# Altium schematic symbol library TarabusLib_KAP.SchLib: 304 symbols (part 4 of 4)
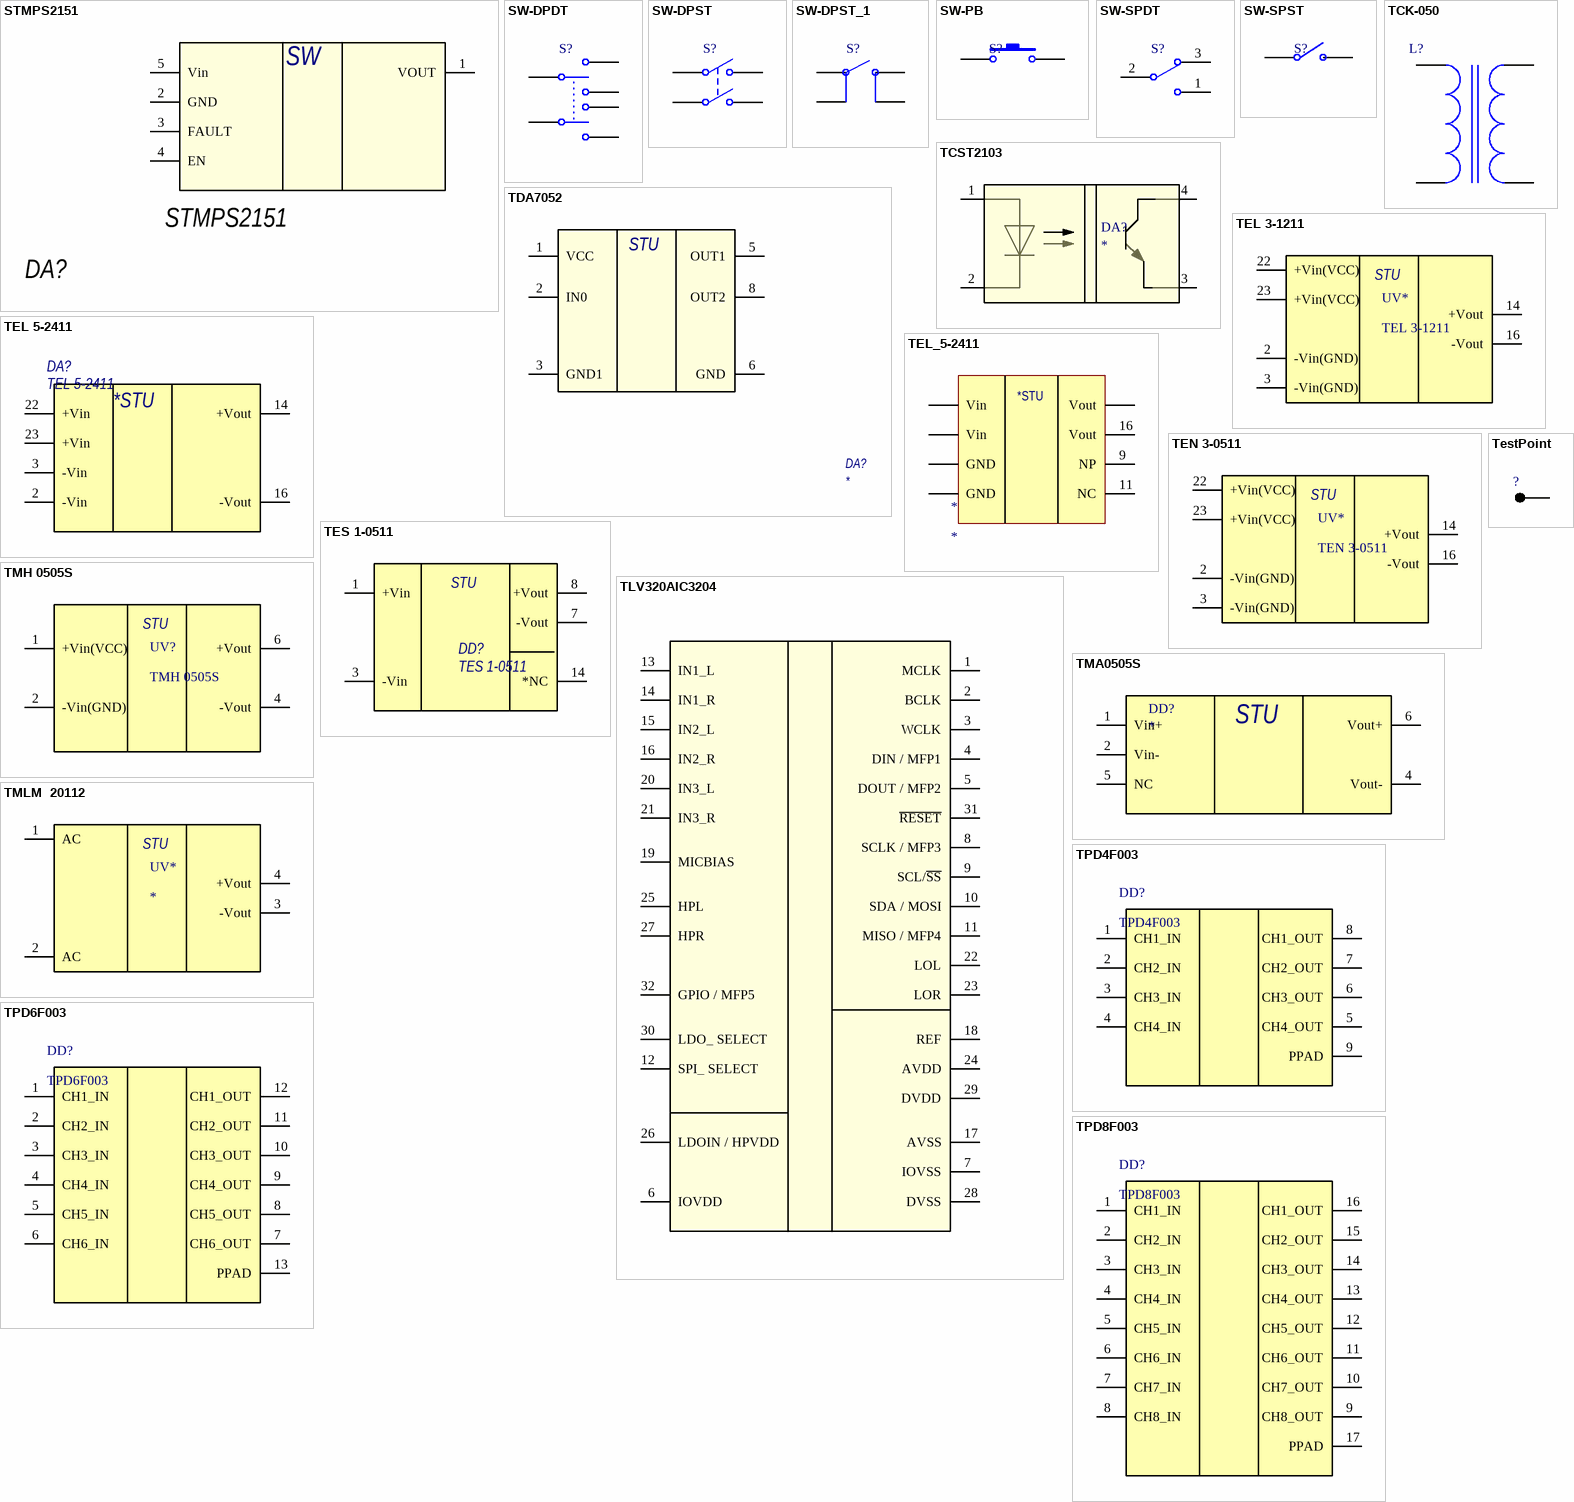
[diagram p42: symbols STMPS2151 to TPD8F003]

## SW-DPDT
designator S?
Double-Pole, Double-Throw Switch; Published: 24-Mar-1999; LatestRevisionDate: 17-Jul-2002; LatestRevisionNote: Re-released for DXP Platform.; PackageReference: DPDT-6; Publisher: Altium Limited; PackageDescription: Switch; 6 Leads
footprint DPDT-6 (Switch; 6 Leads)
pins: 1, 2, 3, 4, 5, 6

## SW-DPST
designator S?
Double-Pole, Single-Throw Switch; Published: 24-Mar-1999; LatestRevisionDate: 17-Jul-2002; LatestRevisionNote: Re-released for DXP Platform.; PackageReference: DPST-4; Publisher: Altium Limited; PackageDescription: Switch; 4 Leads
footprint DPST-4 (Switch; 4 Leads)
pins: 1, 2, 3, 4

## SW-DPST_1
designator S?
Double-Pole, Single-Throw Switch; Published: 24-Mar-1999; LatestRevisionDate: 17-Jul-2002; LatestRevisionNote: Re-released for DXP Platform.; PackageReference: DPST-4; Publisher: Altium Limited; PackageDescription: Switch; 4 Leads
footprint DPST-4 (Switch; 4 Leads)
footprint Tact_Switch_TH
pins: 1, 2, 3, 4

## SW-PB
designator S?
Switch; Published: 24-Mar-1999; LatestRevisionDate: 17-Jul-2002; LatestRevisionNote: Re-released for DXP Platform.; PackageReference: SPST-2; Publisher: Altium Limited; PackageDescription: Switch; 2 Leads
footprint SPST-2 (Switch; 2 Leads)
pins: 1, 2

## SW-SPDT
designator S?
SPDT Subminiature Toggle Switch, Right Angle Mounting, Vertical Actuation; Published: 24-Mar-1999; LatestRevisionDate: 17-Dec-2003; LatestRevisionNote: Schematic revised, PCB Footprint replaced.; DatasheetVersion: 05-Dec-2000; PackageReference: TL36WW15050; Publisher: Altium Limited; PackageDescription: Switch; 4 Leads; ComponentLink1Description: Manufacturer Link; ComponentLink1URL: http://www.apem.com
footprint TL36WW15050 (Switch; 4 Leads)
pins: 1, 2, 3

## SW-SPST
designator S?
Single-Pole, Single-Throw Switch; Published: 24-Mar-1999; LatestRevisionDate: 17-Jul-2002; LatestRevisionNote: Re-released for DXP Platform.; PackageReference: SPST-2; Publisher: Altium Limited; PackageDescription: Switch; 2 Leads
footprint SPST-2 (Switch; 2 Leads)
pins: 1, 2

## TCK-050
designator L?  (value not drawn)
Индуктивность; Name: *
footprint TCK-050
pins: 1, 2, 3, 4

## TCST2103
designator DA?
footprint TCST2103
pins: 1, 2, 3, 4

## TDA7052
designator DA?
footprint SO8_H
pins: 1 VCC, 2 IN0, 3 GND1, 4 NC hidden, 5 OUT1, 6 GND, 7 NC hidden, 8 OUT2
text: STU

## TEL 3-1211
designator UV*
DC/DC конвертор
pins: 2 -Vin(GND), 3 -Vin(GND), 14 +Vout, 16 -Vout, 22 +Vin(VCC), 23 +Vin(VCC)
text: STU

## TEL 5-2411
designator DA?
DC/DC конвертор
footprint TEL 5 (Traco Power DC/DC converter)
pins: 2 -Vin, 3 -Vin, 14 +Vout, 16 -Vout, 22 +Vin, 23 +Vin
text: *STU

## TEL_5-2411
designator *
DC/DC конвертор
pins: 2 GND, 3 GND, 9 NP, 11 NC, 14 Vout, 16 Vout, 22 Vin, 23 Vin
text: *STU

## TEN 3-0511
designator UV*
DC/DC конвертор
pins: 2 -Vin(GND), 3 -Vin(GND), 14 +Vout, 16 -Vout, 22 +Vin(VCC), 23 +Vin(VCC)
text: STU

## TES 1-0511
designator DD?
DC/DC конвертор
footprint TES 1 (Посадка для DC/DC TES 1)
pins: 1 +Vin, 3 -Vin, 7 -Vout, 8 +Vout, 14 *NC
text: STU

## TestPoint
designator ?
Test point
footprint PLS2-1
pins: 1

## TLV320AIC3204
designator DD?
Ultra Low Power Stereo Audio Codec; PortComponent: True; Published: 22-Jan-2007; Publisher: Altium Limited; HelpURL: https://wiki.altium.com/display/ADOH/NanoBoard+3000+-+Audio+CODEC
footprint VQFN32
pins: 1 MCLK (power) "Ground (0V)", 2 BCLK (power) "USB power connection", 3 WCLK (power) "Power supply (+3.3V DC) for de-coupling purposes", 4 DIN / MFP1 (power) "Antenna connection 1", 5 DOUT / MFP2 (power) "Antenna connection 1", 6 IOVDD (power) "Reset for microcontroller, active low", 7 IOVSS (power) "Ground (0V)", 8 SCLK / MFP3 (power) "Ground (0V)", 9 SCL/~{SS} (power) "Power supply (+3.3V DC) for de-coupling purposes", 10 SDA / MOSI (power) "Ground (0V)", 11 MISO / MFP4 (power) "USB data +", 12 SPI_ SELECT (power) "USB data -", 13 IN1_L (power) "Power supply (+3.3V DC) for de-coupling purposes", 14 IN1_R (power) "Power supply (+3.3V DC) for de-coupling purposes", 15 IN2_L (power) "Power supply (+3.3V DC) for de-coupling purposes", 16 IN2_R (power) "Reference current", 17 AVSS (power) "Positive Digital Supply output for de-coupling purposes", 18 REF (power) "Reserved for programming the flash", 19 MICBIAS (power) "Antenna connection 2", 20 IN3_L (power) "Power supply (+3.3V DC) for de-coupling purposes", 21 IN3_R (power) "Ground (0V)", 22 LOL (power) "Power Supply (+1.8V) to Power Amplifier", 23 LOR (power) "General purpose data Port 0, bit 0", 24 AVDD (power) "General purpose data Port 0, bit 1", 25 HPL (power) "General purpose data Port 0, bit 2", 26 LDOIN / HPVDD (power) "General purpose data Port 0, bit 3", 27 HPR (power) "General purpose data Port 0, bit 4", 28 DVSS (power) "General purpose data Port 0, bit 5", 29 DVDD (power) "Positive Digital Supply output for de-coupling purposes", 30 LDO_ SELECT (power) "GND", 31 ~{RESET} (power) "GND", 32 GPIO / MFP5 (power) "GND"

## TMA0505S
designator DD?
DC/DC преобразователь
footprint TMH 0505
pins: 1 Vin+, 2 Vin-, 4 Vout-, 5 NC, 6 Vout+
text: STU

## TMH 0505S
designator UV?
DC/DC конвертор
pins: 1 +Vin(VCC), 2 -Vin(GND), 4 -Vout, 6 +Vout
text: STU

## TMLM  20112
designator UV*
TMLM 20112
pins: 1 AC, 2 AC, 3 -Vout, 4 +Vout
text: STU

## TPD4F003
designator DD?
EMI Filter with Integrated ESD Protection, 4 Channels, -40 to +85 degC, 8-pin WSON (DQD), Green (RoHS & no Sb/Br); Manufacturer: Texas Instruments; PartNumber: TPD4F003DQDR; Breakdown Voltage(Min)(V): 6; Ctotal(Typ)(pF): 17; IEC 61000-4-2 Air-Gap(Typ)(+/- kV): 20; IEC 61000-4-2 Contact(Typ)(+/- kV): 12; SubFamily: EMI Solution; DatasheetVersion: SLLS907D; PackageVersion: revC, Dec-2011; PackageReference: DQD8-1200X400TP; PackageDescription: 8-Pin Plastic Small Outline No-Lead, 1.35 x 1.7 x 0.8 mm Body, 0.4 mm Pitch, Exposed Pad; Supplier 1: Digi-Key; Supplier Part Number 1: 296-25817-2-ND; Supplier 2: Digi-Key; Supplier Part Number 2: 296-25817-1-ND; Supplier 3: Digi-Key; Supplier Part Number 3: 296-25817-6-ND; Supplier 4: Farnell; Supplier Part Number 4: 1815758RL; Supplier 5: Farnell; Supplier Part Number 5: 1815758; Supplier 6: Newark; Supplier Part Number 6: 65R4599; Supplier 7: Mouser; Supplier Part Number 7: 595-TPD4F003DQDR; Eco-Plan: Green (RoHS & no Sb/Br); Mounting Technology: Surface Mount; ComponentLink1Description: Datasheet; ComponentLink1URL: http://www.ti.com/general/docs/lit/getliterature.tsp?genericPartNumber=TPD4F003&fileType=pdf; ComponentLink2Description: URL Link1; ComponentLink2URL: SamplesURL:http://www.ti.com/product/tpd4f003#samples; Name: TPD4F003
footprint DQD8-1200X400TP (SON, 8-Leads, Body 1.35x1.7mm, Pitch 0.4mm, Thermal Pad 1.2x0.4mm, TI Recommended)
pins: 1 CH1_IN, 2 CH2_IN, 3 CH3_IN, 4 CH4_IN, 5 CH4_OUT, 6 CH3_OUT, 7 CH2_OUT, 8 CH1_OUT, 9 PPAD (power)

## TPD6F003
designator DD?
EMI Filter for Display Interface, 6 Channels, -40 to +85 degC, 12-pin WSON (DQD), Green (RoHS & no Sb/Br); Manufacturer: Texas Instruments; PartNumber: TPD6F003DQDR; Breakdown Voltage(Min)(V): 6; Ctotal(Typ)(pF): 19; IEC 61000-4-2 Air-Gap(Typ)(+/- kV): 20; IEC 61000-4-2 Contact(Typ)(+/- kV): 12; SubFamily: EMI Solution; DatasheetVersion: SLLS907D; PackageVersion: revC, Dec-2011; PackageReference: DQD12-2000X400TP; PackageDescription: 12-Pin Plastic Small Outline No-Lead, 1.35 x 2.5 x 0.8 mm Body, 0.4 mm Pitch, Exposed Pad; Supplier 1: Digi-Key; Supplier Part Number 1: 296-25802-2-ND; Supplier 2: Digi-Key; Supplier Part Number 2: 296-25802-1-ND; Supplier 3: Digi-Key; Supplier Part Number 3: 296-25802-6-ND; Supplier 4: Farnell; Supplier Part Number 4: 1863883; Supplier 5: Newark; Supplier Part Number 5: 69R4547; Supplier 6: Mouser; Supplier Part Number 6: 595-TPD6F003DQDR; Eco-Plan: Green (RoHS & no Sb/Br); Mounting Technology: Surface Mount; ComponentLink1Description: Datasheet; ComponentLink1URL: http://www.ti.com/general/docs/lit/getliterature.tsp?genericPartNumber=TPD6F003&fileType=pdf; ComponentLink2Description: URL Link1; ComponentLink2URL: SamplesURL:http://www.ti.com/product/tpd6f003#samples; Name: TPD6F003
footprint DQD12-2000X400TP (SON, 12-Leads, Body 1.35x2.5mm, Pitch 0.4mm, Thermal Pad 2x0.4mm, TI Recommended)
pins: 1 CH1_IN, 2 CH2_IN, 3 CH3_IN, 4 CH4_IN, 5 CH5_IN, 6 CH6_IN, 7 CH6_OUT, 8 CH5_OUT, 9 CH4_OUT, 10 CH3_OUT, 11 CH2_OUT, 12 CH1_OUT, 13 PPAD (power)

## TPD8F003
designator DD?
EMI Filter for Display Interface, 8 Channels, -40 to +85 degC, 16-pin WSON (DQD), Green (RoHS & no Sb/Br); Manufacturer: Texas Instruments; PartNumber: TPD8F003DQDR; Breakdown Voltage(Min)(V): 6; Ctotal(Typ)(pF): 17; IEC 61000-4-2 Air-Gap(Typ)(+/- kV): 20; IEC 61000-4-2 Contact(Typ)(+/- kV): 12; SubFamily: EMI Solution; DatasheetVersion: SLLS907D; PackageVersion: revC, Dec-2011; PackageReference: DQD16-2800X400TP; PackageDescription: 16-Pin Plastic Small Outline No-Lead, 1.35 x 3.3 x 0.8 mm Body, 0.4 mm Pitch, Exposed Pad; Supplier 1: Digi-Key; Supplier Part Number 1: 296-25803-2-ND; Supplier 2: Digi-Key; Supplier Part Number 2: 296-25803-1-ND; Supplier 3: Digi-Key; Supplier Part Number 3: 296-25803-6-ND; Supplier 4: Farnell; Supplier Part Number 4: 1863884; Supplier 5: Newark; Supplier Part Number 5: 69R4548; Supplier 6: Mouser; Supplier Part Number 6: 595-TPD8F003DQDR; Eco-Plan: Green (RoHS & no Sb/Br); Mounting Technology: Surface Mount; ComponentLink1Description: Datasheet; ComponentLink1URL: http://www.ti.com/general/docs/lit/getliterature.tsp?genericPartNumber=TPD8F003&fileType=pdf; ComponentLink2Description: URL Link1; ComponentLink2URL: SamplesURL:http://www.ti.com/product/tpd8f003#samples; Name: TPD8F003
footprint DQD16-2800X400TP (SON, 16-Leads, Body 1.35x3.3mm, Pitch 0.4mm, Thermal Pad 2.8x0.4mm, TI Recommended)
pins: 1 CH1_IN, 2 CH2_IN, 3 CH3_IN, 4 CH4_IN, 5 CH5_IN, 6 CH6_IN, 7 CH7_IN, 8 CH8_IN, 9 CH8_OUT, 10 CH7_OUT, 11 CH6_OUT, 12 CH5_OUT, 13 CH4_OUT, 14 CH3_OUT, 15 CH2_OUT, 16 CH1_OUT, 17 PPAD (power)

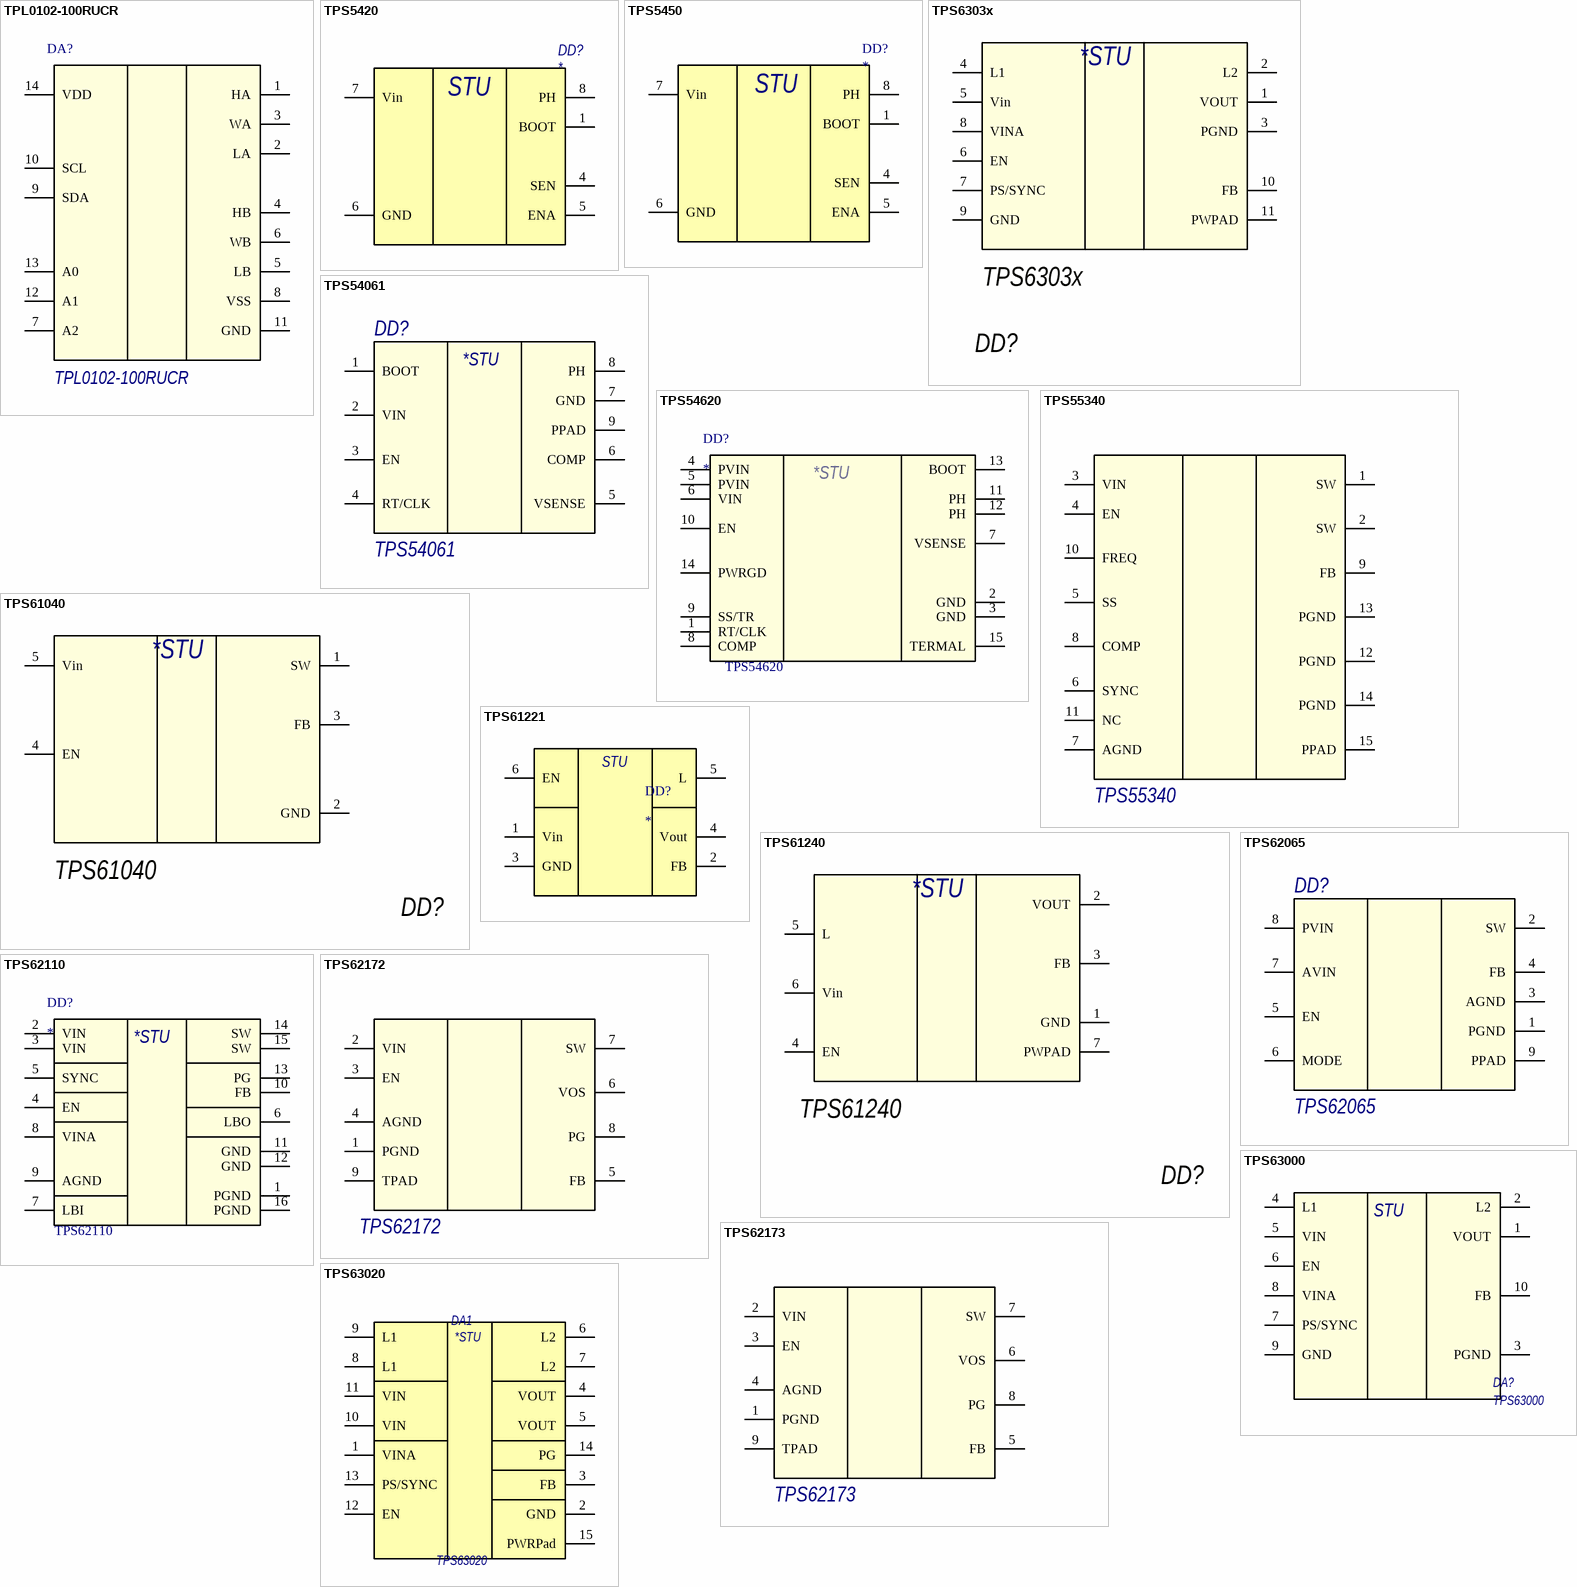
[diagram p36: symbols TPL0102-100RUCR to TPS63020]

## TPL0102-100RUCR
designator DA?
256 Tap Dual Channel Digital Potentiometer with I2C Interface and Non-Volatile Memory, -40 to 85 degC, 14-pin QFN (RUC14), Green (RoHS & no Sb/Br); Manufacturer: Texas Instruments; DAC Channels: 2; DNL(Max)(+/-LSB): 0.25; INL(Max)(+/-LSB): 0.5; DatasheetVersion: SLIS134B; PackageVersion: 4208447/C, 08/2008; PackageReference: RUC14; PackageDescription: 14-Pin Plastic Quad Flatpack No-Lead, Body 2 x 2 mm, Pitch 0.4 mm; Supplier Part Number 1: 296-28379-2-ND; Supplier Part Number 2: 296-28379-1-ND; Supplier Part Number 3: 296-28379-6-ND; Supplier Part Number 4: 1895372; Supplier Part Number 5: 47T5679; Supplier Part Number 6: 595-TPL0102-100RUCR; Eco-Plan: Green (RoHS & no Sb/Br); Interface: I2C; SubFamily: Digital Potentiometer; Mounting Technology: Surface Mount; Code_JEDEC: MO-288; ComponentLink1Description: Manufacturer URL; ComponentLink1URL: http://www.ti.com/; ComponentLink2Description: Datasheet; ComponentLink2URL: http://www.ti.com/general/docs/lit/getliterature.tsp?genericPartNumber=TPL0102-100&fileType=pdf; ComponentLink3Description: Package Specification; ComponentLink3URL: http://www.ti.com/lit/ml/mpqf212b/mpqf212b.pdf; PartNumber: TPL0102-100RUCR
footprint TI-RUC14_V (QFN, 14-Leads, Body 2x2mm, Pitch 0.4mm)
pins: 1 HA (power) "High terminal of Potentiometer A", 2 LA (power) "Low terminal of Potentiometer A", 3 WA (power) "Wiper terminal of Potentiometer A", 4 HB (power) "High terminal of Potentiometer B", 5 LB (power) "Low terminal of Potentiometer B", 6 WB (power) "Wiper terminal of Potentiometer B", 7 A2 (power) "Address Bit 2", 8 VSS (power) "Negative or GND Power Supply Pin", 9 SDA (power) "I2C Data I/O", 10 SCL (power) "I2C Clock Input", 11 GND (power) "Ground", 12 A1 (power) "Address Bit 1", 13 A0 (power) "Address Bit 0", 14 VDD (power) "Positive Power Supply Pin"

## TPS5420
designator DD?
footprint SO8_A
pins: 1 BOOT, 4 SEN, 5 ENA, 6 GND, 7 Vin, 8 PH
text: STU

## TPS5450
designator DD?
footprint SO8_A PowerPad
pins: 1 BOOT, 4 SEN, 5 ENA, 6 GND, 7 Vin, 8 PH
text: STU

## TPS6303x
designator DD?  Name: TPS6303x  (hidden comment: *)
DC/DC Buck-Boost
footprint QFN10
pins: 1 VOUT, 2 L2, 3 PGND, 4 L1, 5 Vin, 6 EN, 7 PS/SYNC, 8 VINA, 9 GND, 10 FB, 11 PWPAD
text: *STU

## TPS54061
designator DD?
200mA Synchronous Step-Down DC-DC Converter with Low IQ; Value: Value; Name: TPS54061
footprint WSON-8 (PSON, 8-Leads, Body 4x4mm, Pitch 0.8mm, NSC Recommended)
pins: 1 BOOT, 2 VIN, 3 EN, 4 RT/CLK, 5 VSENSE, 6 COMP, 7 GND, 8 PH, 9 PPAD
text: *STU

## TPS54620
designator DD?  Name: TPS54620
DC/DC
footprint S-PVQFN-N14_A
footprint S-PVQFN-N14_H
pins: 1 RT/CLK, 2 GND, 3 GND, 4 PVIN, 5 PVIN, 6 VIN, 7 VSENSE, 8 COMP, 9 SS/TR, 10 EN, 11 PH, 12 PH, 13 BOOT, 14 PWRGD, 15 TERMAL
text: *STU

## TPS55340
designator DD?
Integrated 5-A 40-V Wide Input Range Boost/SEPIC/Flyback DC-DC Regulator; Value: Value; Name: TPS55340
footprint HTSSOP14
pins: 1 SW (power), 2 SW (power), 3 VIN (power), 4 EN (power), 5 SS (power), 6 SYNC (power), 7 AGND (power), 8 COMP (power), 9 FB (power), 10 FREQ (power), 11 NC (power), 12 PGND (power), 13 PGND (power), 14 PGND (power), 15 PPAD (power)

## TPS61040
designator DD?  Name: TPS61040  (hidden comment: *)
footprint SOT23-5_A
footprint SOT23-5_H
pins: 1 SW, 2 GND, 3 FB, 4 EN, 5 Vin
text: *STU

## TPS61221
designator DD?
footprint SC70
pins: 1 Vin, 2 FB, 3 GND, 4 Vout, 5 L, 6 EN
text: STU

## TPS61240
designator DD?
Name: TPS61240
footprint QFN6_A
pins: 1 GND, 2 VOUT, 3 FB, 4 EN, 5 L, 6 Vin, 7 PWPAD
text: *STU

## TPS62065
designator DD?
3-MHz 2A Step Down Converter in 2x2 SON Package; Value: Value; Name: TPS62065
footprint WSON-8 (PSON, 8-Leads, Body 4x4mm, Pitch 0.8mm, NSC Recommended)
pins: 1 PGND, 2 SW, 3 AGND, 4 FB, 5 EN, 6 MODE, 7 AVIN, 8 PVIN, 9 PPAD

## TPS62110
designator DD?  Name: TPS62110
DC/DC
footprint S-PVQFN-N15
pins: 1 PGND, 2 VIN, 3 VIN, 4 EN, 5 SYNC, 6 LBO, 7 LBI, 8 VINA, 9 AGND, 10 FB, 11 GND, 12 GND, 13 PG, 14 SW, 15 SW, 16 PGND
text: *STU

## TPS62172
designator DD?
3-17V 0.5A Step-Down Converter with DCS-Control; Value: Fixed 3.3; Name: TPS62172
footprint WSON-8 (PSON, 8-Leads, Body 4x4mm, Pitch 0.8mm, NSC Recommended)
pins: 1 PGND, 2 VIN, 3 EN, 4 AGND, 5 FB, 6 VOS, 7 SW, 8 PG, 9 TPAD

## TPS62173
designator DD?
3-17V 0.5A Step-Down Converter with DCS-Control; Name: TPS62173
footprint WSON-8 (PSON, 8-Leads, Body 4x4mm, Pitch 0.8mm, NSC Recommended)
pins: 1 PGND, 2 VIN, 3 EN, 4 AGND, 5 FB, 6 VOS, 7 SW, 8 PG, 9 TPAD

## TPS63000
designator DA?
DC/DC
footprint QFN-10
pins: 1 VOUT, 2 L2, 3 PGND, 4 L1, 5 VIN, 6 EN, 7 PS/SYNC, 8 VINA, 9 GND, 10 FB
text: STU

## TPS63020
designator DA1
DC-DC; Name: TPS63020
footprint PVSON14_A
footprint PVSON14_H
pins: 1 VINA, 2 GND, 3 FB, 4 VOUT, 5 VOUT, 6 L2, 7 L2, 8 L1, 9 L1, 10 VIN, 11 VIN, 12 EN, 13 PS/SYNC, 14 PG, 15 PWRPad
text: *STU

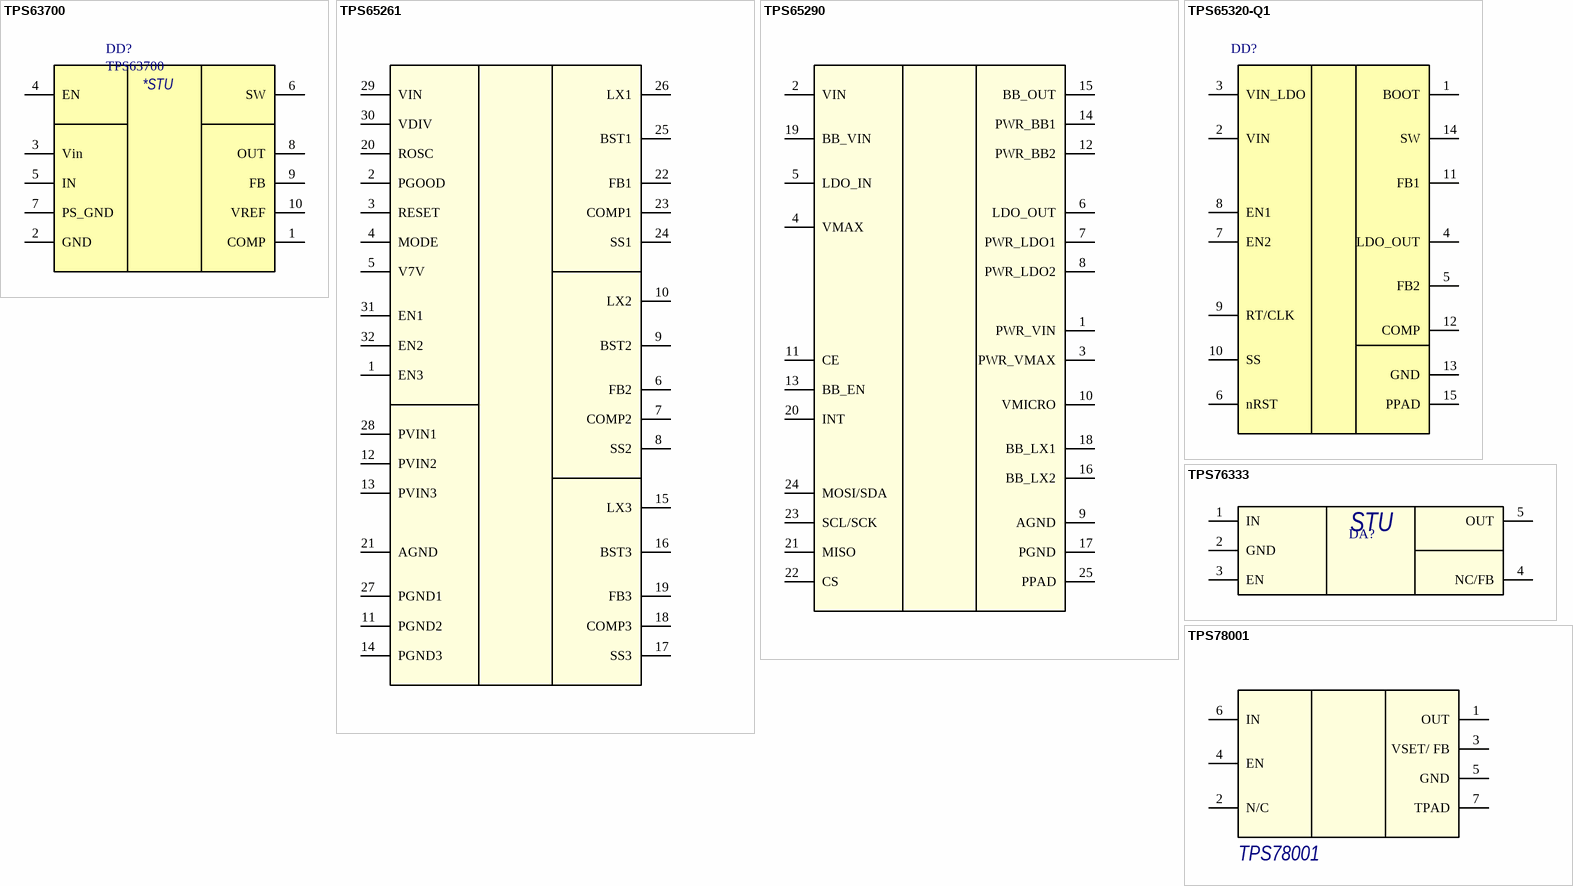
[diagram p37: symbols TPS63700 to TPS78001]

## TPS63700
designator DD?
Инвертер -5В; Name: TPS63700
footprint SON-10
pins: 1 COMP, 2 GND, 3 Vin, 4 EN, 5 IN, 6 SW, 7 PS_GND, 8 OUT, 9 FB, 10 VREF
text: *STU

## TPS65261
designator DD?
4.5V to 18V Input Voltage, 3A/2A/2A Output Current Triple Synchronous Step-Down Converter; PortComponent: True; Published: 22-Jan-2007; Publisher: Altium Limited; HelpURL: http://www.ti.com/product/tps65261
footprint VQFN32
pins: 1 EN3 (power) "Enable for buck3. Float to enable. Can use this pin to adjust the input under-voltage lockout of buck3 with a resistor 1 EN3 divider", 2 PGOOD (power) "An open drain output, asserts low if output voltage of any buck beyond regulation range due to thermal shutdown,  over-current, under-voltage or ENx shut down.", 3 RESET (power) "Open drain power failure output signal.", 4 MODE (power) "When high, an automatic power-up/power-down sequence is provided according to states of EN1, EN2 and EN3  pins.", 5 V7V (power) "Internal LDO for gate driver and internal controller. Connect a 1µF capacitor from the pin to power ground", 6 FB2 (power) "Feedback Kelvin sensing pin for buck2 output voltage. Connect this pin to buck2 resistor divider.", 7 COMP2 (power) "Error amplifier output and Loop compensation pin for buck2. Connect a series resistor and capacitor to compensate the control loop of buck2 with peak current PWM mode.", 8 SS2 (power) "Soft-start and tracking input for buck2. An internal 5µA pull-up current source is connected to this pin. The soft-start  time can be programmed by connecting a capacitor between this pin and ground.", 9 BST2 (power) "Boot strapped supply to the high side floating gate driver in buck2. Connect a capacitor (recommend 47nF) from  BST2 pin to LX2 pin.", 10 LX2 (power) "Switching node connection to the inductor and bootstrap capacitor for buck2. The voltage swing at this pin is from a", 11 PGND2 (power) "10 LX2 diode voltage below the ground up to PVIN2 voltage.", 12 PVIN2 (power), 13 PVIN3 (power), 14 PGND3 (power), 15 LX3 (power), 16 BST3 (power), 17 SS3 (power), 18 COMP3 (power), 19 FB3 (power), 20 ROSC (power), 21 AGND (power), 22 FB1 (power), 23 COMP1 (power), 24 SS1 (power), 25 BST1 (power), 26 LX1 (power), 27 PGND1 (power), 28 PVIN1  (power), 29 VIN (power), 30 VDIV (power), 31 EN1 (power), 32 EN2 (power)

## TPS65290
designator DD?
LOW QUIESCENT CURRENT, MULTI-MODE PMIC FOR BATTERY POWERED, ENERGY  HARVESTING APPLICATIONS; PortComponent: True; Published: 2013; Publisher: Altium Limited; HelpURL: http://www.ti.com/lit/ds/symlink/tps65290.pdf
pins: 1 PWR_VIN (power), 2 VIN (power), 3 PWR_VMAX (power), 4 VMAX (power), 5 LDO_IN (power), 6 LDO_OUT (power), 7 PWR_LDO1 (power), 8 PWR_LDO2 (power), 9 AGND (power), 10 VMICRO (power), 11 CE (power), 12 PWR_BB2 (power), 13 BB_EN (power), 14 PWR_BB1 (power), 15 BB_OUT (power), 16 BB_LX2 (power), 17 PGND (power), 18 BB_LX1 (power), 19 BB_VIN (power), 20 INT (power), 21 MISO (power), 22 CS (power), 23 SCL/SCK (power), 24 MOSI/SDA (power), 25 PPAD (power)

## TPS65320-Q1
designator DD?
40-V Step-Down Converter With Eco-mode™ and LDO Regulator; Nane: TPS65320-Q1
footprint PWP15_N (TSOP, 20-Leads, Body 6.5x4.4mm, Pitch 0.65mm, Thermal Pad 3.7x2.4 mm, IPC Medium Density)
pins: 1 BOOT (power), 2 VIN (power), 3 VIN_LDO (power), 4 LDO_OUT (power), 5 FB2 (power), 6 nRST (power), 7 EN2 (power), 8 EN1 (power), 9 RT/CLK (power), 10 SS (power), 11 FB1 (power), 12 COMP (power), 13 GND (power), 14 SW (power), 15 PPAD (power)

## TPS76333
designator DA?
Линейный стабилизатор напряжения
footprint SOT23-5_A
footprint SOT23-5_H
pins: 1 IN, 2 GND, 3 EN, 4 NC/FB, 5 OUT
text: STU

## TPS78001
designator DD?
Single Output LDO, 150mA, Adj. (1.22V to 5.25V), 500nA Quiescent Current; Value: Value; Name: TPS78001
footprint WSON6 (PSON, 8-Leads, Body 4x4mm, Pitch 0.8mm, NSC Recommended)
pins: 1 OUT, 2 N/C, 3 VSET/ FB, 4 EN, 5 GND, 6 IN, 7 TPAD

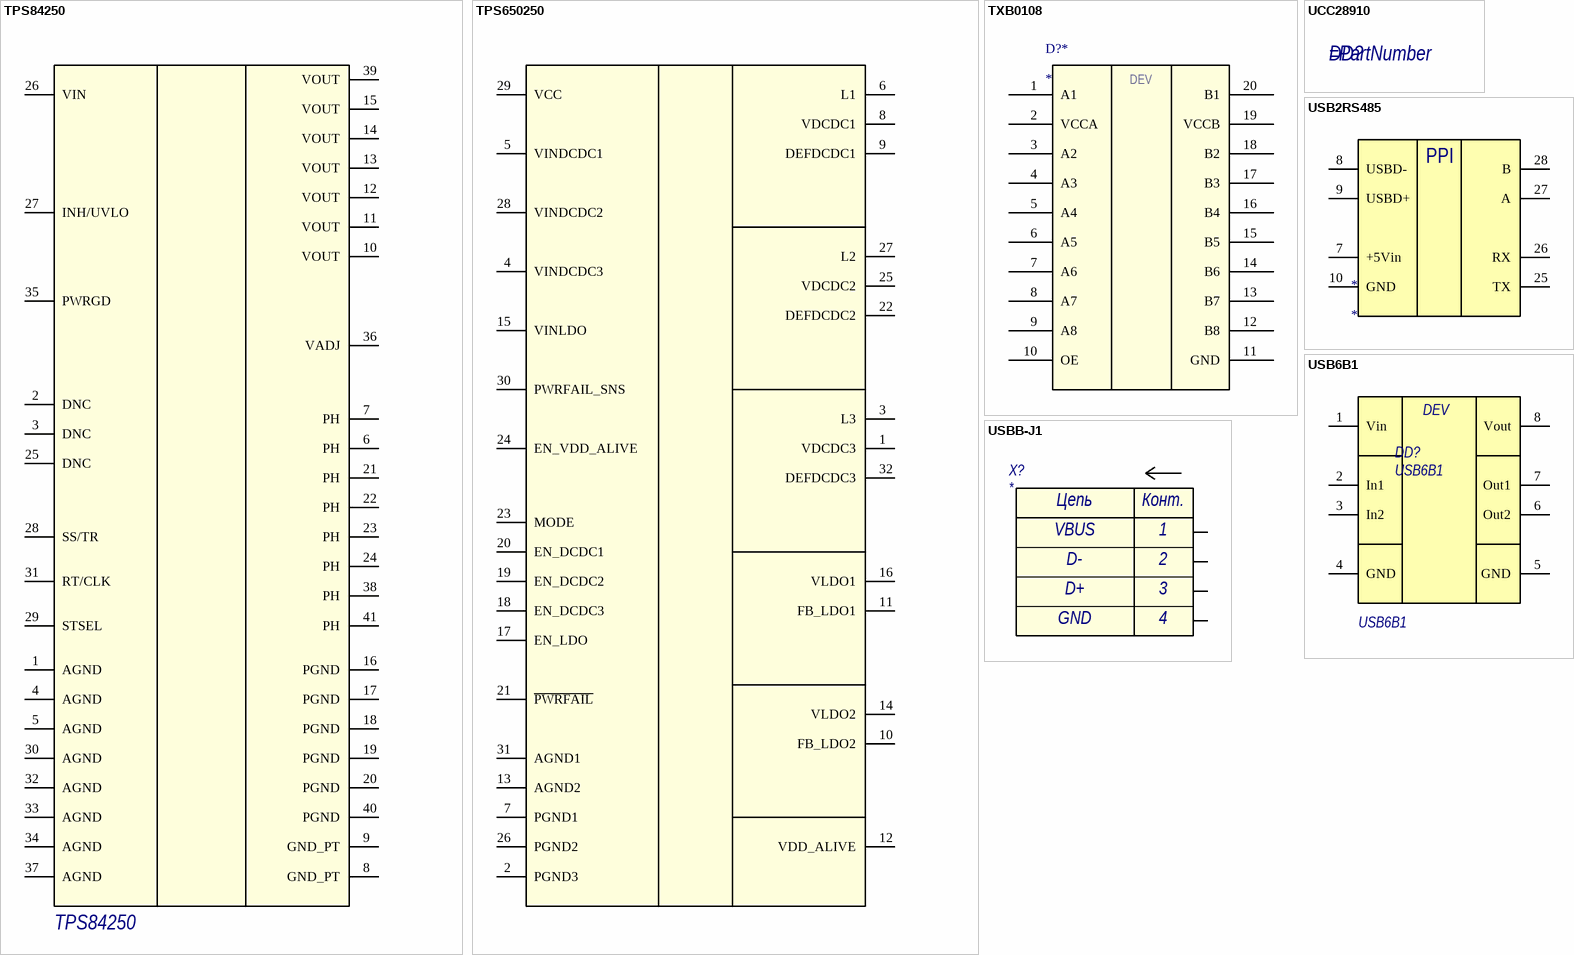
[diagram p38: symbols TPS84250 to USBB-J1]

## TPS84250
designator DD?
7-V to 50-V Input, 2.5-A Step-Down, Integrated Power Solution; Name: TPS84250
footprint PB1QFN
pins: 1 AGND, 2 DNC, 3 DNC, 4 AGND, 5 AGND, 6 PH, 7 PH, 8 GND_PT, 9 GND_PT, 10 VOUT, 11 VOUT, 12 VOUT, 13 VOUT, 14 VOUT, 15 VOUT, 16 PGND, 17 PGND, 18 PGND, 19 PGND, 20 PGND, 21 PH, 22 PH, 23 PH, 24 PH, 25 DNC, 26 VIN, 27 INH/UVLO, 28 SS/TR, 29 STSEL, 30 AGND, 31 RT/CLK, 32 AGND, 33 AGND, 34 AGND, 35 PWRGD, 36 VADJ, 37 AGND, 38 PH, 39 VOUT, 40 PGND, 41 PH

## TPS650250
designator DD?
Power Management IC for Li-Ion Powered Systems; PortComponent: True; Published: 2008; Publisher: Altium Limited; HelpURL: http://www.ti.com/lit/ds/symlink/tps650250.pdf
footprint VQFN32
pins: 1 VDCDC3 (power), 2 PGND3 (power), 3 L3 (power), 4 VINDCDC3 (power), 5 VINDCDC1 (power), 6 L1 (power), 7 PGND1 (power), 8 VDCDC1 (power), 9 DEFDCDC1 (power), 10 FB_LDO2 (power), 11 FB_LDO1 (power), 12 VDD_ALIVE (power), 13 AGND2 (power), 14 VLDO2 (power), 15 VINLDO (power), 16 VLDO1 (power), 17 EN_LDO (power), 18 EN_DCDC3 (power), 19 EN_DCDC2 (power), 20 EN_DCDC1 (power), 21 ~{PWRFAIL} (power), 22 DEFDCDC2 (power), 23 MODE (power), 24 EN_VDD_ALIVE (power), 25 VDCDC2 (power), 26 PGND2 (power), 27 L2 (power), 28 VINDCDC2 (power), 29 VCC (power), 30 PWRFAIL_SNS (power), 31 AGND1 (power), 32 DEFDCDC3 (power)

## TXB0108
designator D?*
8-BIT BIDIRECTIONAL VOLTAGE-LEVEL TRANSLATOR  WITH AUTO-DIRECTION SENSING AND ±15-kV ESD PROTECTION
footprint TSSOP20
pins: 1 A1, 2 VCCA, 3 A2, 4 A3, 5 A4, 6 A5, 7 A6, 8 A7, 9 A8, 10 OE, 11 GND, 12 B8, 13 B7, 14 B6, 15 B5, 16 B4, 17 B3, 18 B2, 19 VCCB, 20 B1
text: DEV

## UCC28910
designator DD?
Name: Name; Value: Value

## USB2RS485
designator *
footprint USB2RS485
pins: 7 +5Vin, 8 USBD-, 9 USBD+, 10 GND, 25 TX, 26 RX, 27 A, 28 B
text: PPI

## USB6B1
designator DD?
Защита USB; Name: USB6B1
footprint SO8_H
pins: 1 Vin, 2 In1, 3 In2, 4 GND, 5 GND, 6 Out2, 7 Out1, 8 Vout
text: DEV

## USBB-J1
designator X?
VBUS: VBUS; D-: D-; D+: D+; GND: GND
footprint USBB-J1
pins: 1, 2, 3, 4
text: Цепь; Конт.

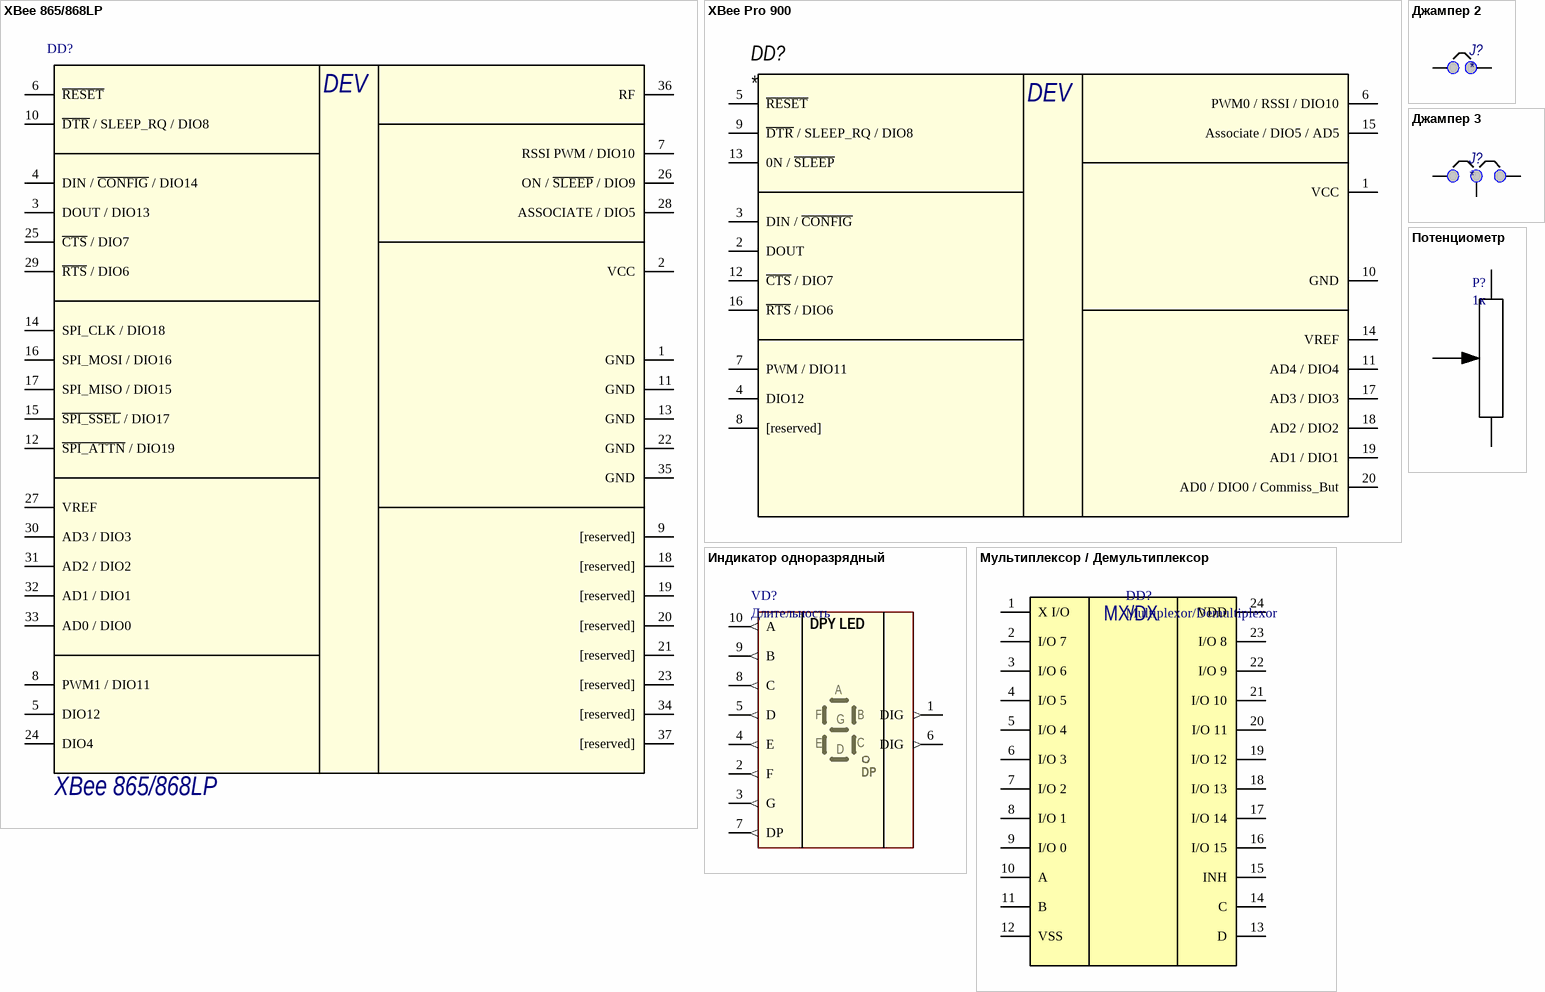
[diagram p39: symbols XBee 865/868LP to Потенциометр]

## XBee 865/868LP
designator DD?
Радиомодуль; Name: XBee 865/868LP
footprint XB868LP
pins: 1 GND, 2 VCC, 3 DOUT / DIO13, 4 DIN / ~{CONFIG} / DIO14, 5 DIO12, 6 ~{RESET}, 7 RSSI PWM / DIO10, 8 PWM1 / DIO11, 9 [reserved], 10 ~{DTR} / SLEEP_RQ / DIO8, 11 GND, 12 ~{SPI_ATTN} / DIO19, 13 GND, 14 SPI_CLK / DIO18, 15 ~{SPI_SSEL} / DIO17, 16 SPI_MOSI / DIO16, 17 SPI_MISO / DIO15, 18 [reserved], 19 [reserved], 20 [reserved], 21 [reserved], 22 GND, 23 [reserved], 24 DIO4, 25 ~{CTS} / DIO7, 26 ON / ~{SLEEP} / DIO9, 27 VREF, 28 ASSOCIATE / DIO5, 29 ~{RTS} / DIO6, 30 AD3 / DIO3, 31 AD2 / DIO2, 32 AD1 / DIO1, 33 AD0 / DIO0, 34 [reserved], 35 GND, 36 RF, 37 [reserved]
text: DEV

## XBee Pro 900
designator DD?
Радиомодуль; Manufacturer: Digi International; Manufacturer Part Number: XBP09-DMUIT-156; Voltage - Supply: 3 V ~ 3.6 V; Frequency: 900MHz; Modulation or Protocol: FHSS; Sensitivity: -100dBm; Data Rate (Max): 156kbps; Current - Receiving: 80mA; Current - Transmitting: 210mA; Data Interface: PCB, Through Hole; Antenna Connector: U.FL; Power - Output: 17dBm (50mW); Supplier 1: Digi-Key; Supplier: Digi-Key; RoHS: RoHS Compliant; Applications: Wireless Mesh Networks; Memory Size: -; Operating Temperature: -40°C ~ 85°C; Package / Case: Module; Category: RF/IF and RFID; Packaging: Bulk; Supplier Part Number 1: 602-1131-ND; Supplier Part Number: 602-1131-ND
footprint XB900PRO
pins: 1 VCC, 2 DOUT, 3 DIN / ~{CONFIG}, 4 DIO12, 5 ~{RESET}, 6 PWM0 / RSSI / DIO10, 7 PWM / DIO11, 8 [reserved], 9 ~{DTR} / SLEEP_RQ / DIO8, 10 GND, 11 AD4 / DIO4, 12 ~{CTS} / DIO7, 13 0N / ~{SLEEP}, 14 VREF, 15 Associate / DIO5 / AD5, 16 ~{RTS} / DIO6, 17 AD3 / DIO3, 18 AD2 / DIO2, 19 AD1 / DIO1, 20 AD0 / DIO0 / Commiss_But
text: DEV

## Джампер 2
designator J?
Джампер с двумя контактами
footprint PLS2-2
pins: 1, 2

## Джампер 3
designator J?
Джампер с тремя контактами
footprint PLS2-3
pins: 1, 2, 3

## Индикатор одноразрядный
designator VD?, comment Длительность
7-ми сегментный 1 разрядный цифровой индикатор; Назначение: Длительность
pins: 1 DIG (out), 2 F (out), 3 G (out), 4 E (out), 5 D (out), 6 DIG (out), 7 DP (out), 8 C (out), 9 B (out), 10 A (out)
text: DPY LED

## Мультиплексор / Демультиплексор
designator DD?, comment Multiplexor/Demultiplexor
CD4067BBPW
footprint DIP24 (DIP; 24 Leads; Row Spacing 7.62 mm; Pitch 2.54 mm)
pins: 1 X I/O, 2 I/O 7, 3 I/O 6, 4 I/O 5, 5 I/O 4, 6 I/O 3, 7 I/O 2, 8 I/O 1, 9 I/O 0, 10 A, 11 B, 12 VSS, 13 D, 14 C, 15 INH, 16 I/O 15, 17 I/O 14, 18 I/O 13, 19 I/O 12, 20 I/O 11, 21 I/O 10, 22 I/O 9, 23 I/O 8, 24 VDD
text: MX/DX

## Потенциометр
designator P?, comment 1к
Потенциометр; Value: 1к
pins: 1, 2, 3